# EAGLE library part LTC4040 (library Analog Devices)
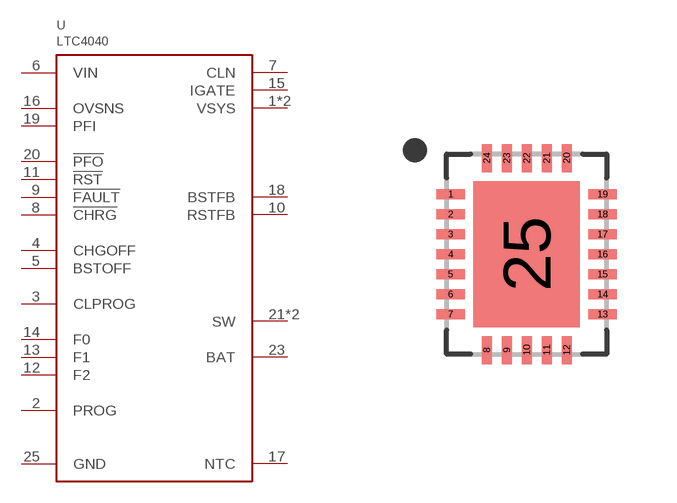
[diagram p15: symbol with the pads of QFN24_ASYM; footprint QFN24_ASYM]

Designator prefix U

## LTC4040  [QFN24_ASYM]
1  VSYS
2  PROG
3  CLPROG
4  CHGOFF
5  BSTOFF
6  VIN
7  CLN
8  !CHRG
9  !FAULT
10  RSTFB
11  !RST
12  F2
13  F1
14  F0
15  IGATE
16  OVSNS
17  NTC
18  BSTFB
19  PFI
20  !PFO
21  SW
22  SW
23  BAT
24  VSYS
25  GND

## Footprint QFN24_ASYM (pad centres in mm)
smd 0.7 x 0.25: 1 -1.9,1.5; 2 -1.9,1; 3 -1.9,0.5; 4 -1.9,0; 5 -1.9,-0.5; 6 -1.9,-1; 7 -1.9,-1.5; 13 1.9,-1.5; 14 1.9,-1; 15 1.9,-0.5; 16 1.9,0; 17 1.9,0.5; 18 1.9,1; 19 1.9,1.5
smd 0.25 x 0.7: 8 -1,-2.4; 9 -0.5,-2.4; 10 0,-2.4; 11 0.5,-2.4; 12 1,-2.4; 20 1,2.4; 21 0.5,2.4; 22 0,2.4; 23 -0.5,2.4; 24 -1,2.4
smd 2.65 x 3.65: 25 0,0